# Altium integrated library smart_home.IntLib: 22 symbols
Pins are listed as number, name and electrical type; pins without a type are passive.

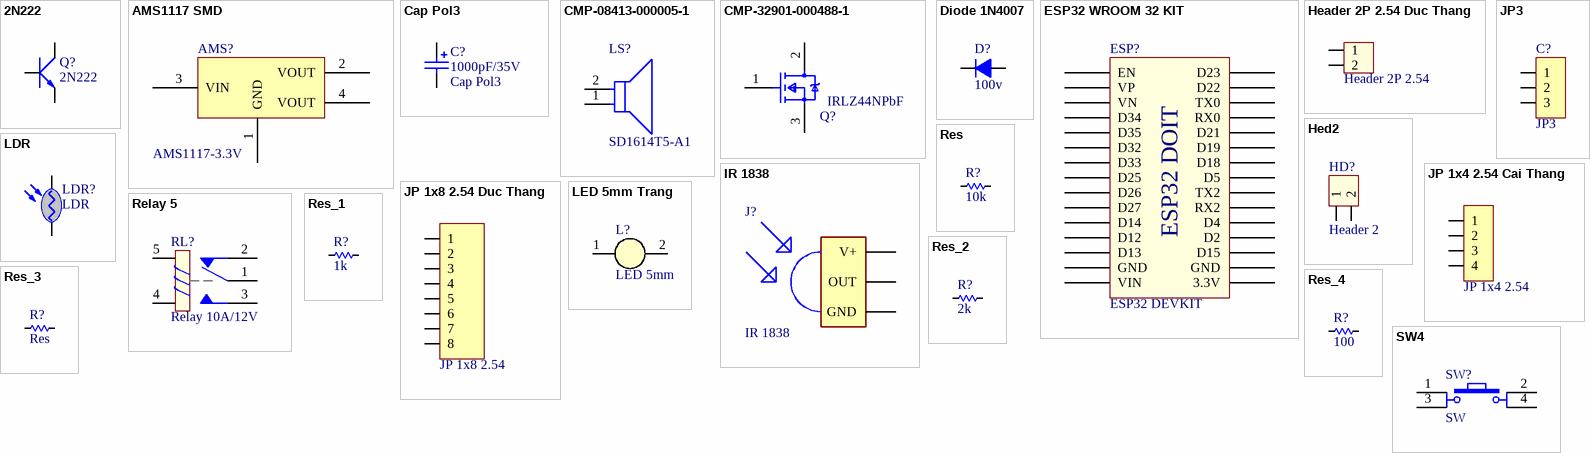
[diagram p0: symbols 2N222 to SW4]

## 2N222
designator Q?
NPN 600mW, ECB; Value: C1815
footprint TO92-123 (TO-92)
footprint SOT23-231
footprint TO92-123 - 1 (TO-92)
footprint TO92-123 - 2 (TO-92)
footprint TO92-123 - 3 (TO-92)
pins: 1 E, 2 B, 3 C

## AMS1117 SMD
designator AMS?, comment AMS1117-3.3V
Dán; Value: AMS1117-3.3V SOT223; Don_Vi: Con; Ma_Hang: MH000596; Ghi_Chu: *; Kieu_Chan: *; Chung_Loai: Dán
footprint SOT223
pins: 1 GND, 2 VOUT, 3 VIN, 4 VOUT

## Cap Pol3
designator C?  value 1000pF/35V
Polarized Capacitor (Surface Mount); VALUE: C?; LatestRevisionDate: 17-Jul-2002; LatestRevisionNote: Re-released for DXP Platform.; PackageReference: C0805; Publisher: Altium Limited
footprint TU_NGUON
footprint CP2/5
pins: 1, 2
1 alternate drawing of the same symbol

## CMP-08413-000005-1
designator LS?, comment SD1614T5-A1
BUZZER MAGNETIC 5V 80DB 2048HZ 1; Frequency: 2.048kHz; Operating Supply Current: 80mA; Max Operating Temperature: 85°C; Min Operating Temperature: -40°C; Voltage Rating: 5V; Termination: PC Pins; Sensing Method: Magnetic; Mount: Panel
footprint FP-SD1614T5-A1-MFG
pins: 1 C, 2 A

## CMP-32901-000488-1
designator Q?, comment IRLZ44NPbF
MOSFET N-CH 55V 47A TO220AB; Turn-On Delay Time: 11ns; Gate to Source Voltage (Vgs): 16V; Element Configuration: Single; Rds On Max: 22mR; Turn-Off Delay Time: 26ns; Max Power Dissipation: 110W; Threshold Voltage: 2V; Drain to Source Resistance: 35mR; Input Capacitance: 1.7nF; Continuous Drain Current (ID): 47A; Case/Package: TO-220; Lead Free: Lead Free; Halogen Free: Halogen Free; Packaging: Rail/Tube; Length: 0.414inch; Min Operating Temperature: -55°C; REACH SVHC: No SVHC; Number of Pins: 3; Width: 0.185inch; Drain to Source Voltage (Vdss): 55V; Power Dissipation: 110W; RoHS Compliant: Yes; Max Operating Temperature: 175°C; Height: 0.6inch; Max Dual Supply Voltage: 55V; Drain to Source Breakdown Voltage: 55V; Mount: Through Hole
footprint FP-PG-TO220-3-MFG
pins: 1 G, 2 D, 3 S

## Diode 1N4007
designator D?, comment 100v
Cắm; Ten_Linh_Kien: Diode 1N4007 1A (DIP); Don_Vi: Con; Ma_Hang: MH001063; Ghi Chu: *; Kieu_Chan: *; Chung_Loai: Cắm
footprint DIODE 1A (Diode 1A)
footprint DIODE 1A DUNG (Diode 1A DUNG)
pins: 1 A, 2 K

## ESP32 WROOM 32 KIT
designator ESP?, comment ESP32 DEVKIT
footprint ESP32 WROOM 32 KIT
pins: 1 EN, 2 VP, 3 VN, 4 D34, 5 D35, 6 D32, 7 D33, 8 D25, 9 D26, 10 D27, 11 D14, 12 D12, 13 D13, 14 GND, 15 VIN, 16 3.3V, 17 GND, 18 D15, 19 D2, 20 D4, 21 RX2, 22 TX2, 23 D5, 24 D18, 25 D19, 26 D21, 27 RX0, 28 TX0, 29 D22, 30 D23
text: ESP32 DOIT

## Header 2P 2.54 Duc Thang
designator H?, comment Header 2P 2.54
Cắm; Ten_Linh_Kien: Header 2P XH2.54-2P Đực Thẳng; Don_Vi: Con; Ma_Hang: MH001283; Chung_Loai: Cắm
footprint XH2.54M-2
pins: 1, 2

## Hed2
designator HD?, comment Header 2
Header 2 (Green); Value: Header 2
footprint HED2 (Header 2, 2 pin, hight 300mil, Pin to Pin 200, Colour Green)
footprint HED2T (Header 2, 2 pin, hight 300mil, Pin to Pin 200, Colour Green)
footprint HED2B (Header 2, 2 pin, hight 300mil, Pin to Pin 150, Colour White)
pins: 1, 2

## IR 1838
designator J?
IR Receiver and Demodulator; MP: TSOP1838; Value: *; Package: None; Availability: Unavailable; Price: None
footprint IR 1838
pins: GND, OUT, VCC V+

## JP3
designator C?
WR-PHD 2.54 mm Angled Socket Header; Manufacturer: W¨¹rth Elektronik eiSos GmbH; partNo: 613003143121; ComponentLink1 Description: Manufacturer; ComponentLink2 Description: Datasheet; NoPins: 03; Created Date: 29 March 2013; ComponentLink1URL: http://www.we-online.com; ComponentLink2URL: http://katalog.we-online.de/em/datasheet/6130xx143121.pdf; Created by: Karrer Zheng
footprint JP3-C1T (3 row, straight, gold plating)
footprint JP3-D1C (3 pins, 1 row, right angled, gold plating)
footprint JP3-C1C (03p 1 row Right angle)
footprint JP3-D1T (3 pins, 1 row, straight, gold plating)
footprint JP3-CLOSED
pins: 1, 2, 3

## JP 1x4 2.54 Cai Thang
designator JP?, comment JP 1x4 2.54
Cắm; Ten_Linh_Kien: Jump Đơn Cái 2.54MM 1x20P Thẳng; Don_Vi: Con; Ma_Hang: MH004006; Ghi_Chu: *; Kieu_Chan: *; Chung_Loai: Cắm
footprint JP 1x4 CT
pins: 1, 2, 3, 4

## JP 1x8 2.54 Duc Thang
designator JP?, comment JP 1x8 2.54
Cắm; Ten_Linh_Kien: Jump Đơn Đực 2.54MM 1x40P Thẳng 11MM; Don_Vi: Con; Ma_Hang: MH000903; Ghi_Chu: *; Kieu_Chan: *; Chung_Loai: Cắm
footprint JP 1x8 DT (8 pins, 1 row, straight, gold plating)
pins: 1, 2, 3, 4, 5, 6, 7, 8

## LDR
designator LDR?
Quang Tro
footprint CDS (Footprint not found)
pins: 1 A, 2 K

## LED 5mm Trang
designator L?, comment LED 5mm
Cắm; Don_Vi: Con; Ma_Hang: MH008983; Ten_Linh_Kien: Led 5MM Trắng Đục (1000c); Ghi_Chu: *; Kieu_Chan: *; Chung_Loai: Cắm
footprint LED-5MM-WHITE (LED 2 PIN, 5 ly , Only colour, pin to pin 110mil)
pins: 1 A, 2 K

## Relay 5
designator RL?, comment Relay 10A/12V
Relay SPDT,10A - 12VDC 5 Pin; Value: Relay SPDT, 10A, 12V
footprint RELAY 5 (Reley DPDT, 8 pin, 1A, W400mil, L800mil,H 300mil)
pins: 1, 2, 3, 4, 5

## Res
designator R?, comment 10k
Res; Manufacturer: Generic Components; Class: Passive; SubClass: R; Published: 08/06/2000; Publisher: Altium Hobart Technology Centre
footprint RES-1/2W
footprint RES-1/4W
footprint RES-1/4W-SMALL
footprint RES-1/4WD
footprint RES-1/8W
footprint RES-1/8W-SMALL (R 1/8W, 2 pin, 200mil)
footprint RES-1/8WD
footprint RES-1W
footprint RES-1W-LONG
footprint RES-1WD
footprint RES-2W (R2W, 2 pin, 700mil)
footprint RES-5W (R5W , 2 pin, 400 x 950mil)
footprint RES-5WD (R5W , 2 pin, 300 x 600 mil)
footprint RES-1/8W-SMALL-2 (R 1/8W, 2 pin, 200mil)
pins: 1, 2

## Res_1
designator R?, comment 1k
Res; Manufacturer: Generic Components; Class: Passive; SubClass: R; Published: 08/06/2000; Publisher: Altium Hobart Technology Centre
footprint RES-1/2W
footprint RES-1/4W
footprint RES-1/4W-SMALL
footprint RES-1/4WD
footprint RES-1/8W
footprint RES-1/8W-SMALL (R 1/8W, 2 pin, 200mil)
footprint RES-1/8WD
footprint RES-1W
footprint RES-1W-LONG
footprint RES-1WD
footprint RES-2W (R2W, 2 pin, 700mil)
footprint RES-5W (R5W , 2 pin, 400 x 950mil)
footprint RES-5WD (R5W , 2 pin, 300 x 600 mil)
footprint RES-1/8W-SMALL-2 (R 1/8W, 2 pin, 200mil)
pins: 1, 2

## Res_2
designator R?, comment 2k
Res; Manufacturer: Generic Components; Class: Passive; SubClass: R; Published: 08/06/2000; Publisher: Altium Hobart Technology Centre
footprint RES-1/2W
footprint RES-1/4W
footprint RES-1/4W-SMALL
footprint RES-1/4WD
footprint RES-1/8W
footprint RES-1/8W-SMALL (R 1/8W, 2 pin, 200mil)
footprint RES-1/8WD
footprint RES-1W
footprint RES-1W-LONG
footprint RES-1WD
footprint RES-2W (R2W, 2 pin, 700mil)
footprint RES-5W (R5W , 2 pin, 400 x 950mil)
footprint RES-5WD (R5W , 2 pin, 300 x 600 mil)
footprint RES-1/8W-SMALL-2 (R 1/8W, 2 pin, 200mil)
pins: 1, 2

## Res_3
designator R?, comment Res
Manufacturer: Generic Components; Class: Passive; SubClass: R; Published: 08/06/2000; Publisher: Altium Hobart Technology Centre
footprint RES-1/2W
footprint RES-1/4W
footprint RES-1/4W-SMALL
footprint RES-1/4WD
footprint RES-1/8W
footprint RES-1/8W-SMALL (R 1/8W, 2 pin, 200mil)
footprint RES-1/8WD
footprint RES-1W
footprint RES-1W-LONG
footprint RES-1WD
footprint RES-2W (R2W, 2 pin, 700mil)
footprint RES-5W (R5W , 2 pin, 400 x 950mil)
footprint RES-5WD (R5W , 2 pin, 300 x 600 mil)
footprint RES-1/8W-SMALL-2 (R 1/8W, 2 pin, 200mil)
pins: 1, 2

## Res_4
designator R?, comment 100
Res; Manufacturer: Generic Components; Class: Passive; SubClass: R; Published: 08/06/2000; Publisher: Altium Hobart Technology Centre
footprint RES-1/2W
footprint RES-1/4W
footprint RES-1/4W-SMALL
footprint RES-1/4WD
footprint RES-1/8W
footprint RES-1/8W-SMALL (R 1/8W, 2 pin, 200mil)
footprint RES-1/8WD
footprint RES-1W
footprint RES-1W-LONG
footprint RES-1WD
footprint RES-2W (R2W, 2 pin, 700mil)
footprint RES-5W (R5W , 2 pin, 400 x 950mil)
footprint RES-5WD (R5W , 2 pin, 300 x 600 mil)
footprint RES-1/8W-SMALL-2 (R 1/8W, 2 pin, 200mil)
pins: 1, 2

## SW4
designator SW?, comment SW
Switch button 4 pin; Value: Button chip 4 pin
footprint SW4 (SW button 4pin, 250 x250 mil)
footprint SW4B (SW button 4pin, 450 x 450 mil)
pins: 1, 2, 3, 4